# Altium footprint library CWF-2.PcbLib: 1 footprints
Each footprint in its own frame and in the unit in brackets; x right, y up, seen from the top. Pads: shape width x height; smd on the part's side, far side on the other; paste and mask are expansions set on the pad; w line width, h text height; cw(c..) or ccw(c..) is an arc to the next point about the centre after c.
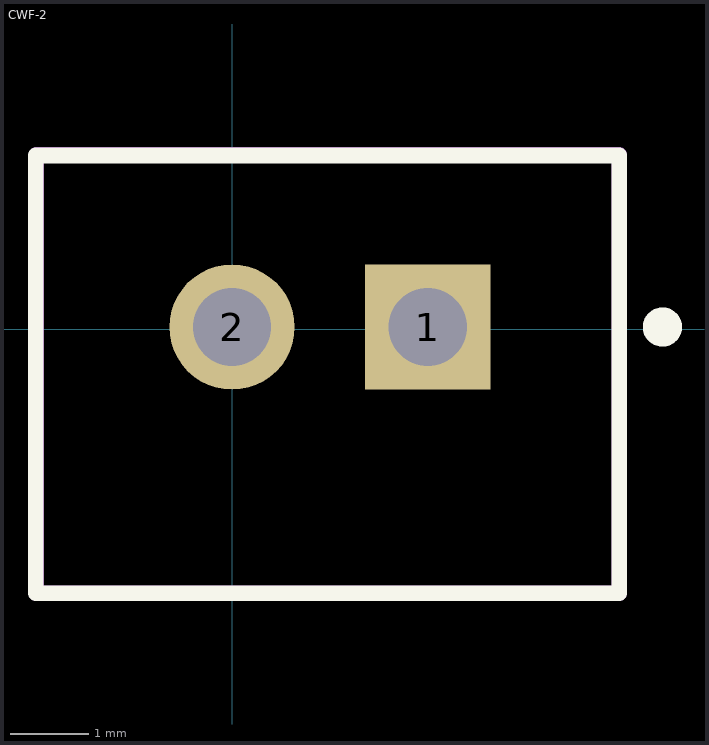
[diagram p0: the footprint, top view; thin cyan lines are the x and y axes]

## CWF-2 [mm]
pads (2):
  rect 1.6x1.6 hole 1 paste-2539.97 mask+0: 1(2.5,0.025)
  round 1.6 hole 1 paste-2539.97 mask+0: 2(0,0.025)
Top Overlay:
  circle w0.25: c5.5,0.025 r0.125
  lines w0.2: -2.508,-3.375 -2.508,2.217 4.95,2.217 4.95,-3.375 -2.508,-3.375
Top Assembly:
  lines w0.2: -2.5,-3.375 4.95,-3.375 4.95,2.225 -2.5,2.225 -2.5,-3.375
  text ".Designator" at -1.05,-2.037 h1
Top 3D Body:
  lines w0.2: -2.5,-3.375 4.95,-3.375 4.95,2.225 -2.5,2.225 -2.5,-3.375
Top Courtyard:
  lines w0.2: -2.5,-3.375 4.95,-3.375 4.95,2.225 -2.5,2.225 -2.5,-3.375
Top Component Center:
  lines w0.1: -0.5,0 0.5,0 ; 0,-0.5 0,0.5
3D body "DS1069-2 CWF-2.STEP": height 7, standoff -3.5, extent -2.5,-3.525 5,2.225